# EAGLE library part LED-RGB-3535 (library LED-SMD)
RGB-3535
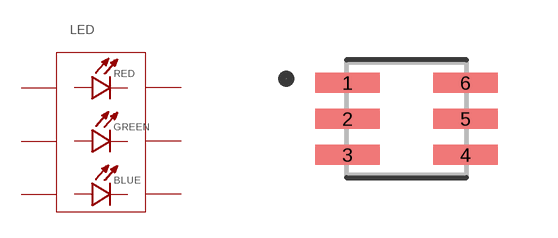
[diagram p1: symbol with the pads of LED-RGB-3535; footprint LED-RGB-3535]

Designator prefix LED

## LED-RGB-3535  [LED-RGB-3535]
1  R_A  pas
2  G_A  pas
3  B_A  pas
4  B_C  pas
5  G_C  pas
6  R_C  pas

## Footprint LED-RGB-3535 (pad centres in mm)
RGB-3535
smd 1.6 x 0.5: 1 -1.475,0.9; 2 -1.475,0; 3 -1.475,-0.9; 4 1.475,-0.9; 5 1.475,0; 6 1.475,0.9